# EAGLE library part DECADE-BT2540 (library DECADE-libraries20151104)
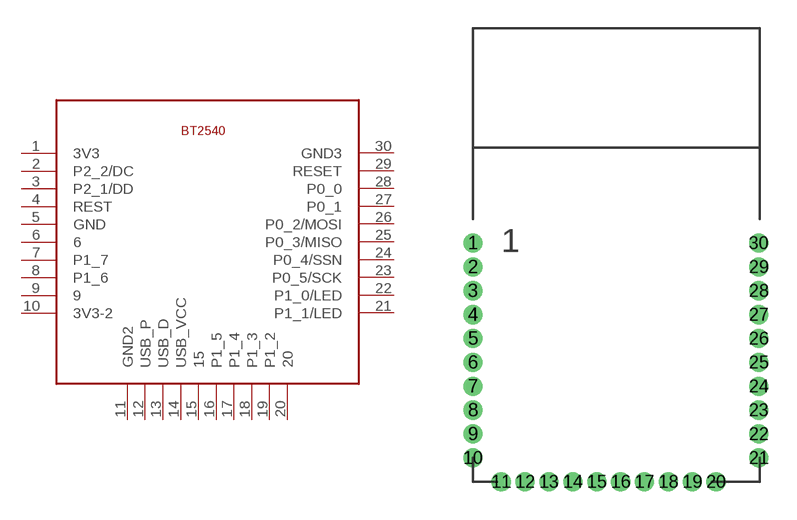
[diagram p8: symbol with the pads of DECADE-BT2540; footprint DECADE-BT2540]

Designator prefix -

## DECADE-BT2540  [DECADE-BT2540]
1  3V3
2  P2_2/DC
3  P2_1/DD
4  REST
5  GND
6  6
7  P1_7
8  P1_6
9  9
10  3V3-2
11  GND2
12  USB_P
13  USB_D
14  USB_VCC
15  15
16  P1_5
17  P1_4
18  P1_3
19  P1_2
20  20
21  P1_1/LED
22  P1_0/LED
23  P0_5/SCK
24  P0_4/SSN
25  P0_3/MISO
26  P0_2/MOSI
27  P0_1
28  P0_0
29  RESET
30  GND3

## Footprint DECADE-BT2540 (pad centres in mm)
drill 0.51: 1 0,0; 2 0,-1.27; 3 0,-2.54; 4 0,-3.81; 5 0,-5.08; 6 0,-6.35; 7 0,-7.62; 8 0,-8.89; 9 0,-10.16; 10 0,-11.43; 11 1.5,-12.7; 12 2.77,-12.7; 13 4.04,-12.7; 14 5.31,-12.7; 15 6.58,-12.7; 16 7.85,-12.7; 17 9.12,-12.7; 18 10.39,-12.7; 19 11.66,-12.7; 20 12.93,-12.7; 21 15.2,-11.43; 22 15.2,-10.16; 23 15.2,-8.89; 24 15.2,-7.62; 25 15.2,-6.35; 26 15.2,-5.08; 27 15.2,-3.81; 28 15.2,-2.54; 29 15.2,-1.27; 30 15.2,0